# EAGLE library part LPC1224FBD48/201,1 (library NXP_By_element14_Batch_1)
MCU
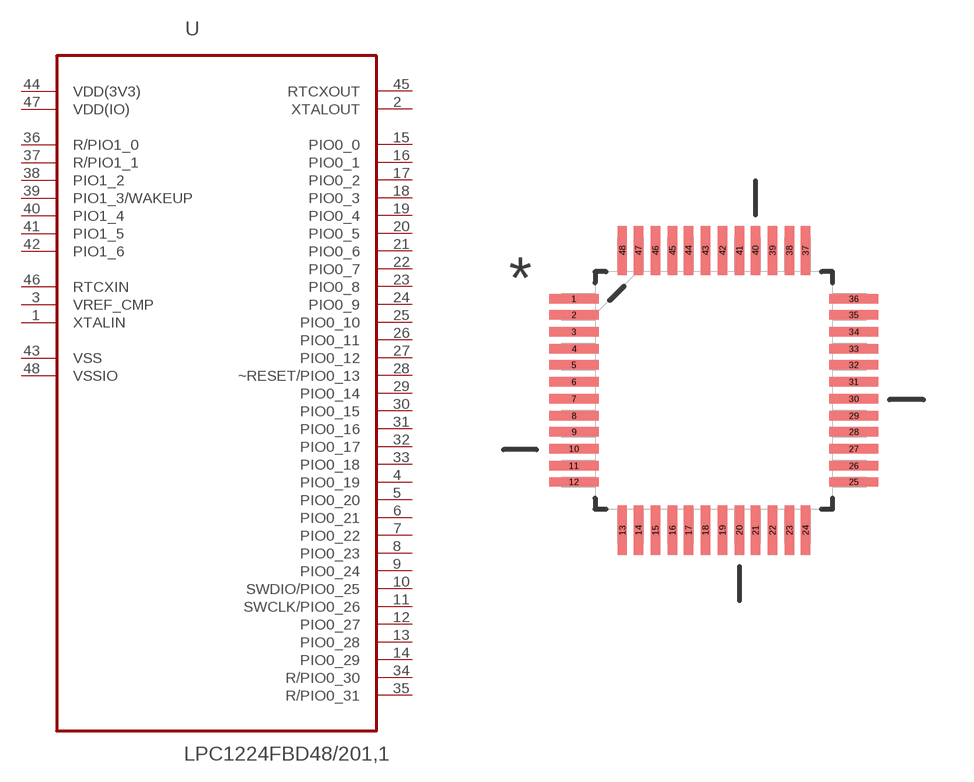
[diagram p322: symbol with the pads of QFP50P900X900X160-48N; footprint QFP50P900X900X160-48N]

Designator prefix U

## LPC1224FBD48/201,1 (MPN: LPC1224FBD48/201,1; OC_FARNELL: 1868112; OC_NEWARK: 24T8421; PACKAGE: QFP-48; SUPPLIER: NXP)  [QFP50P900X900X160-48N]
1  XTALIN  in
2  XTALOUT  out
3  VREF_CMP  in
4  PIO0_19
5  PIO0_20
6  PIO0_21
7  PIO0_22
8  PIO0_23
9  PIO0_24
10  SWDIO/PIO0_25
11  SWCLK/PIO0_26
12  PIO0_27
13  PIO0_28
14  PIO0_29
15  PIO0_0
16  PIO0_1
17  PIO0_2
18  PIO0_3
19  PIO0_4
20  PIO0_5
21  PIO0_6
22  PIO0_7
23  PIO0_8
24  PIO0_9
25  PIO0_10
26  PIO0_11
27  PIO0_12
28  ~RESET/PIO0_13
29  PIO0_14
30  PIO0_15
31  PIO0_16
32  PIO0_17
33  PIO0_18
34  R/PIO0_30
35  R/PIO0_31
36  R/PIO1_0
37  R/PIO1_1
38  PIO1_2
39  PIO1_3/WAKEUP
40  PIO1_4
41  PIO1_5
42  PIO1_6
43  VSS  pas
44  VDD(3V3)  pwr
45  RTCXOUT  out
46  RTCXIN  in
47  VDD(IO)  pwr
48  VSSIO  pas

## Footprint QFP50P900X900X160-48N (pad centres in mm)
smd 1.473 x 0.279: 1 -4.191,2.743; 2 -4.191,2.261; 3 -4.191,1.753; 4 -4.191,1.245; 5 -4.191,0.762; 6 -4.191,0.254; 7 -4.191,-0.254; 8 -4.191,-0.762; 9 -4.191,-1.245; 10 -4.191,-1.753; 11 -4.191,-2.261; 12 -4.191,-2.743; 25 4.191,-2.743; 26 4.191,-2.261; 27 4.191,-1.753; 28 4.191,-1.245; 29 4.191,-0.762; 30 4.191,-0.254; 31 4.191,0.254; 32 4.191,0.762; 33 4.191,1.245; 34 4.191,1.753; 35 4.191,2.261; 36 4.191,2.743
smd 0.279 x 1.473: 13 -2.743,-4.191; 14 -2.261,-4.191; 15 -1.753,-4.191; 16 -1.245,-4.191; 17 -0.762,-4.191; 18 -0.254,-4.191; 19 0.254,-4.191; 20 0.762,-4.191; 21 1.245,-4.191; 22 1.753,-4.191; 23 2.261,-4.191; 24 2.743,-4.191; 37 2.743,4.191; 38 2.261,4.191; 39 1.753,4.191; 40 1.245,4.191; 41 0.762,4.191; 42 0.254,4.191; 43 -0.254,4.191; 44 -0.762,4.191; 45 -1.245,4.191; 46 -1.753,4.191; 47 -2.261,4.191; 48 -2.743,4.191